# EAGLE library part PIN2X3 (library __MyCommonLib1)
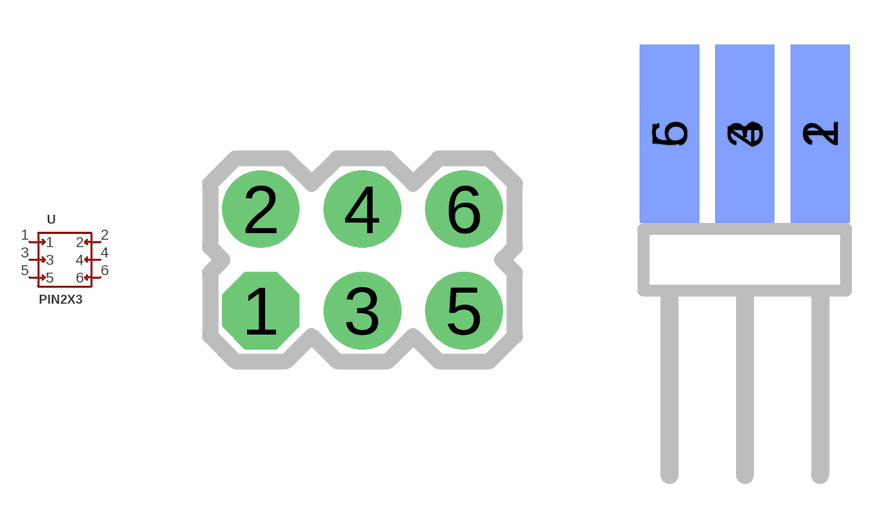
[diagram p2: symbol with the pads of PIN2X3_2.54MM; footprints PIN2X3_2.54MM, PIN2X3_2.54MM_MALE_SIDE_BOARD]

Designator prefix -

## PIN2X3_2.54MM  [PIN2X3_2.54MM]
1  1
2  2
3  3
4  4
5  5
6  6

## PIN2X32.54MM_SIDE_BOARD  [PIN2X3_2.54MM_MALE_SIDE_BOARD]
Pads as for PIN2X3_2.54MM

## PIN2X32.54MM_LOOSE_PADS  [PIN2X3_2.54MM_LOOSE_PADS]
Pads as for PIN2X3_2.54MM

## Footprint PIN2X3_2.54MM (pad centres in mm)
drill 0.9 pad 1.93 octagon: 1 -2.54,-1.27
drill 0.9 pad 1.93: 2 -2.54,1.27; 3 0,-1.27; 4 0,1.27; 5 2.54,-1.27; 6 2.54,1.27

## Footprint PIN2X3_2.54MM_MALE_SIDE_BOARD (pad centres in mm)
smd 2 x 6: 1 2.54,3; 3 0,3; 5 -2.54,3
smd 2 x 6 bottom: 2 2.54,3; 4 0,3; 6 -2.54,3

## Footprint PIN2X3_2.54MM_LOOSE_PADS (pad centres in mm)
drill 0.8 pad 1.4 square: 1 -2.54,-1.27
drill 0.8 pad 1.4: 2 -2.54,1.27; 3 0,-1.27; 4 0,1.27; 5 2.54,-1.27; 6 2.54,1.27